# Altium footprint library PcbLib1.PcbLib: 13 footprints
Each footprint in its own frame and in the unit in brackets; x right, y up, seen from the top. Pads: shape width x height; smd on the part's side, far side on the other; paste and mask are expansions set on the pad; w line width, h text height; cw(c..) or ccw(c..) is an arc to the next point about the centre after c.
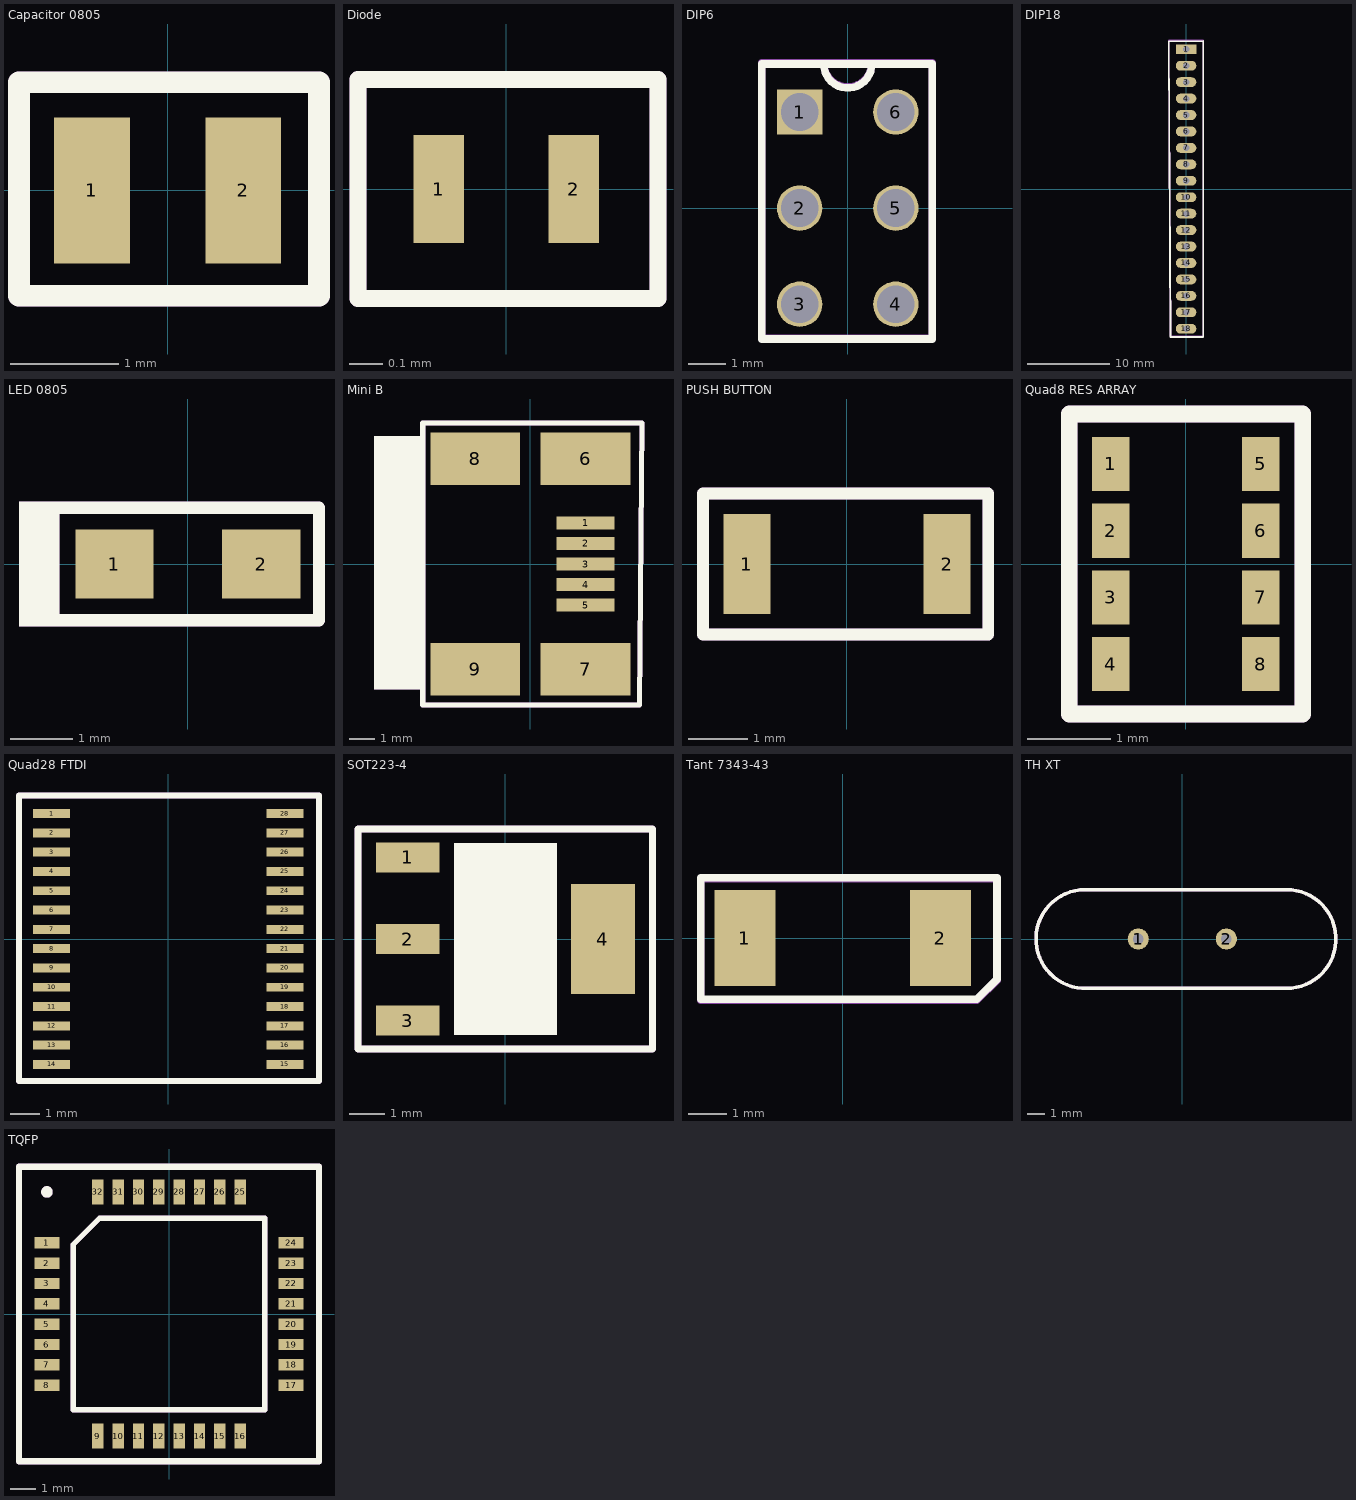
[diagram p0: the footprints below, top view; thin cyan lines are the x and y axes]

## Capacitor 0805 [mm]
pads (2):
  rect 0.7x1.35 smd: 1(-0.7,0) 2(0.7,0)
Top Overlay:
  lines w0.2: -1.375,-0.975 -1.375,0 -1.375,1 1.4,1 1.4,-0.975 -1.375,-0.975
Mechanical 29 (Mech29):
  lines w0.2: -1.375,-0.975 -1.375,0 -1.375,1 1.4,1 1.4,-0.975 -1.375,-0.975
  text ".Designator" at 0.1,0.333 h0.7
3D body "c0805c100j1gactu.stp": height 0.89, standoff 0.01, extent -1.1,-0.725 1.1,0.725

## Diode [mm]
pads (2):
  rect 0.15x0.32 smd: 1(-0.2,0) 2(0.2,0)
Top Overlay:
  lines w0.05: -0.44,-0.325 -0.44,0 -0.44,0.325 0.45,0.325 0.45,-0.325 -0.44,-0.325
Mechanical 29 (Mech29):
  lines w0.05: -0.44,-0.325 -0.44,0 -0.44,0.325 0.45,0.325 0.45,-0.325 -0.44,-0.325
  text ".Designator" at 0.05,0.15 h0.3
3D body "User Library-SOD962.step": height 0.33, standoff 0, extent -0.3,-0.15 0.3,0.15

## DIP6 [mm]
pads (6):
  rect 1.2x1.2 hole 1: 1(-1.27,2.54)
  round 1.2 hole 1: 2(-1.27,0) 3(-1.27,-2.54) 4(1.27,-2.54) 5(1.27,0) 6(1.27,2.54)
Top Overlay:
  lines w0.2: -2.27,-3.46 -2.27,3.81 0.635,3.81 cw(c0,3.81) -0.635,3.81 2.23,3.81 2.23,-3.46 -2.27,-3.46
Mechanical 29 (Mech29):
  lines w0.2: -2.27,-3.435 -2.27,3.835 0.635,3.835 cw(c0,3.835) -0.635,3.835 2.23,3.835 2.23,-3.435 -2.27,-3.435
  text ".Designator" at 0.1,0.333 h0.7
3D body "User Library-HEADER, 2X3, 2_54MM X 2_54MM PITCH, VERT, TH.step": height 8.38, standoff -3.81, extent -2.505,-3.685 2.575,3.935

## DIP18 [mm]
pads (18):
  rect 2.5x1.2 hole 0.8: 1(0,17)
  oval 2.5x1.2 hole 0.8: 2(0,15) 3(0,13) 4(0,11) 5(0,9) 6(0,7) 7(0,5) 8(0,3) 9(0,1) 10(0,-1) 11(0,-3) 12(0,-5) 13(0,-7) 14(0,-9) 15(0,-11) 16(0,-13) 17(0,-15) 18(0,-17)
Top Overlay:
  lines w0.2: -2.1,17.99 -1.9,-18.01 2.085,-18 2.085,18 -2.1,17.99
Mechanical 29 (Mech29):
  lines w0.2: -2.1,18.09 -1.9,-17.91 2.085,-17.9 2.085,18.1 -2.1,18.09
  text ".Designator" at 0.1,0.333 h0.7
3D body "951118-8622-AR.STEP": height 6.05, standoff -2.7, extent -1.004,-17.912 1,18.092

## LED 0805 [mm]
pads (2):
  rect 1.25x1.1 smd: 1(-1.175,0) 2(1.175,0)
Top Overlay:
  rectangle: -2.7,-1 -2.15,1
  lines w0.2: -2.15,-0.9 -2.15,0 -2.15,0.9 ; -2.1,-0.9 2.1,-0.9 2.1,0.9 -2.1,0.9
Mechanical 29 (Mech29):
  rectangle: -2.7,-1 -2.15,1
  lines w0.2: -2.15,-0.9 -2.15,0 -2.15,0.9 ; -2.1,-0.9 2.1,-0.9 2.1,0.9 -2.1,0.9
  text ".Designator" at 0.1,0.333 h0.7
3D body "User Library-LED SMD0805.step": height 0.85, standoff 0.01, extent -1.031,-0.4 1.031,0.506

## Mini B [mm]
pads (9):
  rect 2.25x0.5 smd: 1(2.15,1.6) 2(2.15,0.8) 3(2.15,0) 4(2.15,-0.8) 5(2.15,-1.6)
  rect 3.5x2.05 smd: 6(2.15,4.1) 7(2.15,-4.1) 8(-2.15,4.1) 9(-2.15,-4.1)
Top Overlay:
  rectangle: -6.1,-4.9 -4.3,5
  lines w0.2: -4.2,-5.5 4.255,-5.5 4.354,5.5 -4.2,5.5 -4.2,-5.5
Mechanical 29 (Mech29):
  rectangle: -6.1,-4.9 -4.3,5
  lines w0.2: -4.2,-5.5 4.255,-5.5 4.354,5.5 -4.2,5.5 -4.2,-5.5
  text ".Designator" at 0.1,0.333 h0.7
3D body "usb_a-usb_b-m5-smd-c.stp": height 4.1, standoff -0.75, extent -6.1,-4.9 3.1,5.002

## PUSH BUTTON [mm]
pads (2):
  rect 0.8x1.7 smd: 1(-1.7,0) 2(1.7,0)
Top Overlay:
  lines w0.2: -2.45,-1.2 -2.45,0 -2.45,1.2 ; -2.4,-1.2 2.4,-1.2 2.4,1.2 -2.4,1.2
Mechanical 29 (Mech29):
  lines w0.2: -2.45,-1.2 -2.45,0 -2.45,1.2 ; -2.4,-1.2 2.4,-1.2 2.4,1.2 -2.4,1.2
  text ".Designator" at 0.1,0.333 h0.7
3D body "User Library-Pushbutton3x4x2.step": height 2.01, standoff 0.01, extent -2.45,-1.45 2.45,1.45

## Quad8 RES ARRAY [mm]
pads (8):
  rect 0.45x0.65 smd: 1(-0.9,1.2) 2(-0.9,0.4) 3(-0.9,-0.4) 4(-0.9,-1.2) 5(0.9,1.2) 6(0.9,0.4) 7(0.9,-0.4) 8(0.9,-1.2)
Top Overlay:
  lines w0.2: -1.4,-1.8 1.4,-1.8 1.4,1.8 -1.4,1.8 -1.4,-1.8
Mechanical 29 (Mech29):
  lines w0.2: -1.4,-1.8 1.4,-1.8 1.4,1.8 -1.4,1.8 -1.4,-1.8
  text ".Designator" at 0.1,0.333 h0.7
3D body "cat16-1003f4lf.stp": height 0.51, standoff 0.01, extent -0.8,-1.6 0.8,1.6

## Quad28 FTDI [mm]
pads (28):
  rect 1.25x0.3 smd: 1(-3.925,4.225) 2(-3.925,3.575) 3(-3.925,2.925) 4(-3.925,2.275) 5(-3.925,1.625) 6(-3.925,0.975) 7(-3.925,0.325) 8(-3.925,-0.325) 9(-3.925,-0.975) 10(-3.925,-1.625) 11(-3.925,-2.275) 12(-3.925,-2.925) 13(-3.925,-3.575) 14(-3.925,-4.225) 15(3.925,-4.225) 16(3.925,-3.575) 17(3.925,-2.925) 18(3.925,-2.275) 19(3.925,-1.625) 20(3.925,-0.975) 21(3.925,-0.325) 22(3.925,0.325) 23(3.925,0.975) 24(3.925,1.625) 25(3.925,2.275) 26(3.925,2.925) 27(3.925,3.575) 28(3.925,4.225)
Top Overlay:
  lines w0.2: -5.025,4.825 -5.025,4.825 ; -5.025,4.825 5.075,4.825 5.075,-4.775 -5.025,-4.775 -5.025,4.825
Mechanical 29 (Mech29):
  lines w0.2: -5.025,4.825 -5.025,4.825 ; -5.025,4.825 5.075,4.825 5.075,-4.775 -5.025,-4.775 -5.025,4.825
  text ".Designator" at 0.1,0.333 h0.7
3D body "User Library-ssop28_model.STEP": height 1.86, standoff -0.14, extent -3.909,-5.098 3.891,5.102

## SOT223-4 [mm]
pads (4):
  rect 1.8x0.84 smd: 1(-2.75,2.3) 2(-2.75,0) 3(-2.75,-2.3)
  rect 1.8x3.1 smd: 4(2.75,0)
Top Overlay:
  rectangle: -1.45,-2.7 1.45,2.7
  lines w0.2: -4.15,-3.1 -4.15,3.1 4.15,3.1 4.15,-3.1 -4.15,-3.1
Mechanical 29 (Mech29):
  rectangle: -1.45,-2.7 1.45,2.7
  lines w0.2: -4.15,-3.1 -4.15,3.1 4.15,3.1 4.15,-3.1 -4.15,-3.1
  text ".Designator" at 0.1,3.733 h0.7
3D body "User Library-SOT-223-1.step": height 1.61, standoff -0.04, extent -3.5,-3.25 3.5,3.25

## Tant 7343-43 [mm]
pads (2):
  rect 1.6x2.5 smd: 1(-2.55,0) 2(2.55,0)
Top Overlay:
  lines w0.2: -3.7,-1.6 -3.7,0 -3.7,1.575 4.025,1.575 4.025,-1.075 3.5,-1.6 -3.7,-1.6
Mechanical 29 (Mech29):
  lines w0.2: -3.7,-1.625 -3.7,-0.025 -3.7,1.55 4.025,1.55 4.025,-1.1 3.5,-1.625 -3.7,-1.625
  text ".Designator" at 0.1,0.333 h0.7
3D body "User Library-Tantalum Cap Case D.step": height 2.81, standoff 0.01, extent -3.62,-2.125 3.52,2.175

## TH XT [mm]
pads (2):
  round 1.2 hole 0.6: 1(-2.5,0) 2(2.5,0)
Top Overlay:
  lines w0.2: -5.5,-2.8 5.9,-2.8 ; -5.392,-2.798 cw(c-5.5,0) -5.5,2.8 5.9,2.8 ; 5.898,-2.8 ccw(c5.918,0) 5.898,2.8
Mechanical 29 (Mech29):
  lines w0.2: -5.5,-2.8 5.9,-2.8 ; -5.392,-2.798 cw(c-5.5,0) -5.5,2.8 5.9,2.8 ; 5.898,-2.8 ccw(c5.918,0) 5.898,2.8
  text ".Designator" at 0.1,0.333 h0.7
3D body "User Library-hc49us-1.step": height 3.5, standoff -3, extent -5.75,-2.325 5.75,2.325

## TQFP [mm]
pads (32):
  rect 1x0.45 smd: 1(-4.8,2.8) 2(-4.8,2) 3(-4.8,1.2) 4(-4.8,0.4) 5(-4.8,-0.4) 6(-4.8,-1.2) 7(-4.8,-2) 8(-4.8,-2.8) 17(4.8,-2.8) 18(4.8,-2) 19(4.8,-1.2) 20(4.8,-0.4) 21(4.8,0.4) 22(4.8,1.2) 23(4.8,2) 24(4.8,2.8)
  rect 0.45x1 smd: 9(-2.8,-4.8) 10(-2,-4.8) 11(-1.2,-4.8) 12(-0.4,-4.8) 13(0.4,-4.8) 14(1.2,-4.8) 15(2,-4.8) 16(2.8,-4.8) 25(2.8,4.8) 26(2,4.8) 27(1.2,4.8) 28(0.4,4.8) 29(-0.4,4.8) 30(-1.2,4.8) 31(-2,4.8) 32(-2.8,4.8)
Top Overlay:
  circle w0.254: c-4.8,4.8 r0.1
  lines w0.2: -3.765,-3.765 -3.765,2.73 -2.73,3.765 3.765,3.765 3.765,-3.765 -3.765,-3.765
  lines w0.254: -5.9,-5.8 -5.9,5.8 5.9,5.8 5.9,-5.8 -5.9,-5.8
Mechanical 29 (Mech29):
  circle w0.254: c-4.8,4.8 r0.1
  lines w0.2: -3.765,-3.765 -3.765,2.73 -2.73,3.765 3.765,3.765 3.765,-3.765 -3.765,-3.765
  lines w0.254: -5.9,-5.8 -5.9,5.8 5.9,5.8 5.9,-5.8 -5.9,-5.8
  text ".Designator" at 0.1,0.333 h0.7
3D body "User Library-Atmel Atmega 48p Case 32A.step": height 1.15, standoff -0.05, extent -4.506,-4.606 4.506,4.406